# EAGLE library part MOLEX-45558-0003 (library Molex-ATX-PCIe)
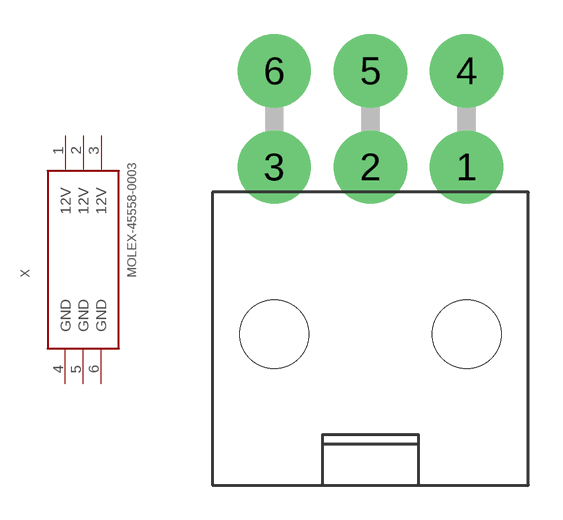
[diagram p1: symbol with the pads of MOLEX-45558-0003; footprint MOLEX-45558-0003]

Designator prefix X

## MOLEX-45558-0003  [MOLEX-45558-0003]
1  12V  pas
2  12V  pas
3  12V  pas
4  GND  pas
5  GND  pas
6  GND  pas

## Footprint MOLEX-45558-0003 (pad centres in mm)
drill 1.9 pad 3.2 round: 1 4.2,7.3; 2 0,7.3; 3 -4.2,7.3; 4 4.2,11.5; 5 0,11.5; 6 -4.2,11.5
hole 3 at -4.2,0
hole 3 at 4.2,0